# EAGLE library part SIM5051-6-0-18-00-A (library SIM5051-6-0-18-00-A)
Memory Card Connectors SIM Card ConnectorHinged Type, 6 Pin, SMT, 1.85mm Profile Source: Datasheet <https://gct.co/files/drawings/sim5051.pdf?v=26939cdf-9a60-4a6d-ba40-87c2268deb55>
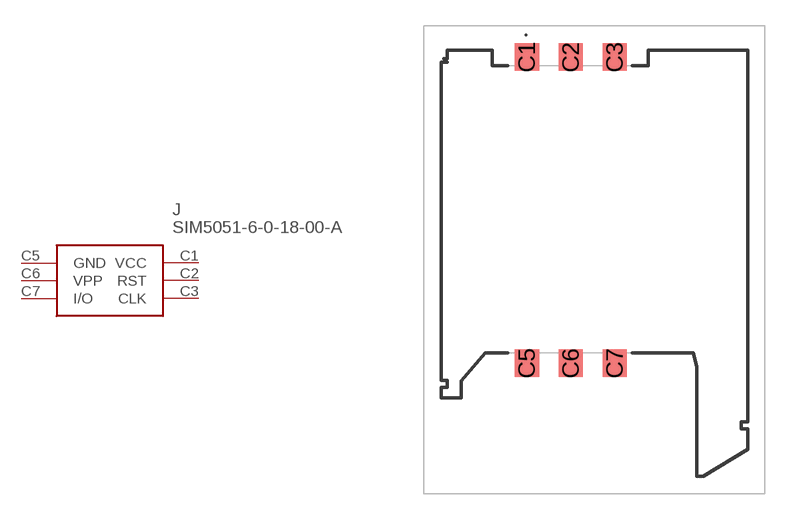
[diagram p0: symbol with the pads of SIM5051601800A; footprint SIM5051601800A]

Designator prefix J

## SIM5051-6-0-18-00-A (Description: Memory Card Connectors SIM Card ConnectorHinged Type, 6 Pin, SMT, 1.85mm Profile; Height: 2mm; Manufacturer_Name: GCT (GLOBAL CONNECTOR TECHNOLOGY); Manufacturer_Part_Number: SIM5051-6-0-18-00-A; Mouser_Part_Number: 640-SIM5051601800A; Mouser_Price-Stock: https://www.mouser.co.uk/ProductDetail/GCT/SIM5051-6-0-18-00-A?qs=KUoIvG%2F9IlalctivsT92PA%3D%3D)  [SIM5051601800A]
C1  VCC
C2  RST
C3  CLK
C5  GND
C6  VPP
C7  I/O

## Footprint SIM5051601800A (pad centres in mm)
SIM5051-6-0-18-00-A-1
smd 1.4 x 1.6: C1 -3.9,11.925; C2 -1.36,11.925; C3 1.18,11.925; C5 -3.9,-5.775; C6 -1.36,-5.775; C7 1.18,-5.775